# EAGLE library part ADT7310 (library Kas-Sensors)
ADT7310 Temerature sensor ADT7310: ±0.5°C ACCURATE, 16-BIT DIGITAL SPI TEMPERATURE SENSOR
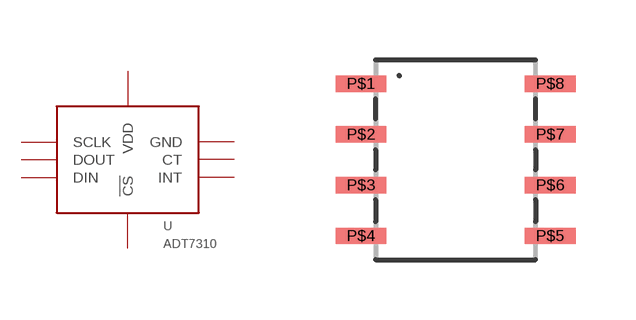
[diagram p9: symbol with the pads of SOIC-8(5X6.2); footprint SOIC-8(5X6.2)]

Designator prefix U

## ADT7310  [SOIC-8(5X6.2)]
P$1  SCLK
P$2  DOUT
P$3  DIN
P$4  !CS
P$5  INT
P$6  CT
P$7  GND
P$8  VDD

## Footprint SOIC-8(5X6.2) (pad centres in mm)
smd 1.27 x 0.41: P$1 -2.365,1.905; P$2 -2.365,0.635; P$3 -2.365,-0.635; P$4 -2.365,-1.905; P$5 2.365,-1.905; P$6 2.365,-0.635; P$7 2.365,0.635; P$8 2.365,1.905